# Altium footprint library SamacSys.PcbLib: 19 footprints (part 1 of 2)
Each footprint in its own frame and in the unit in brackets; x right, y up, seen from the top. Pads: shape width x height; smd on the part's side, far side on the other; paste and mask are expansions set on the pad; w line width, h text height; cw(c..) or ccw(c..) is an arc to the next point about the centre after c.
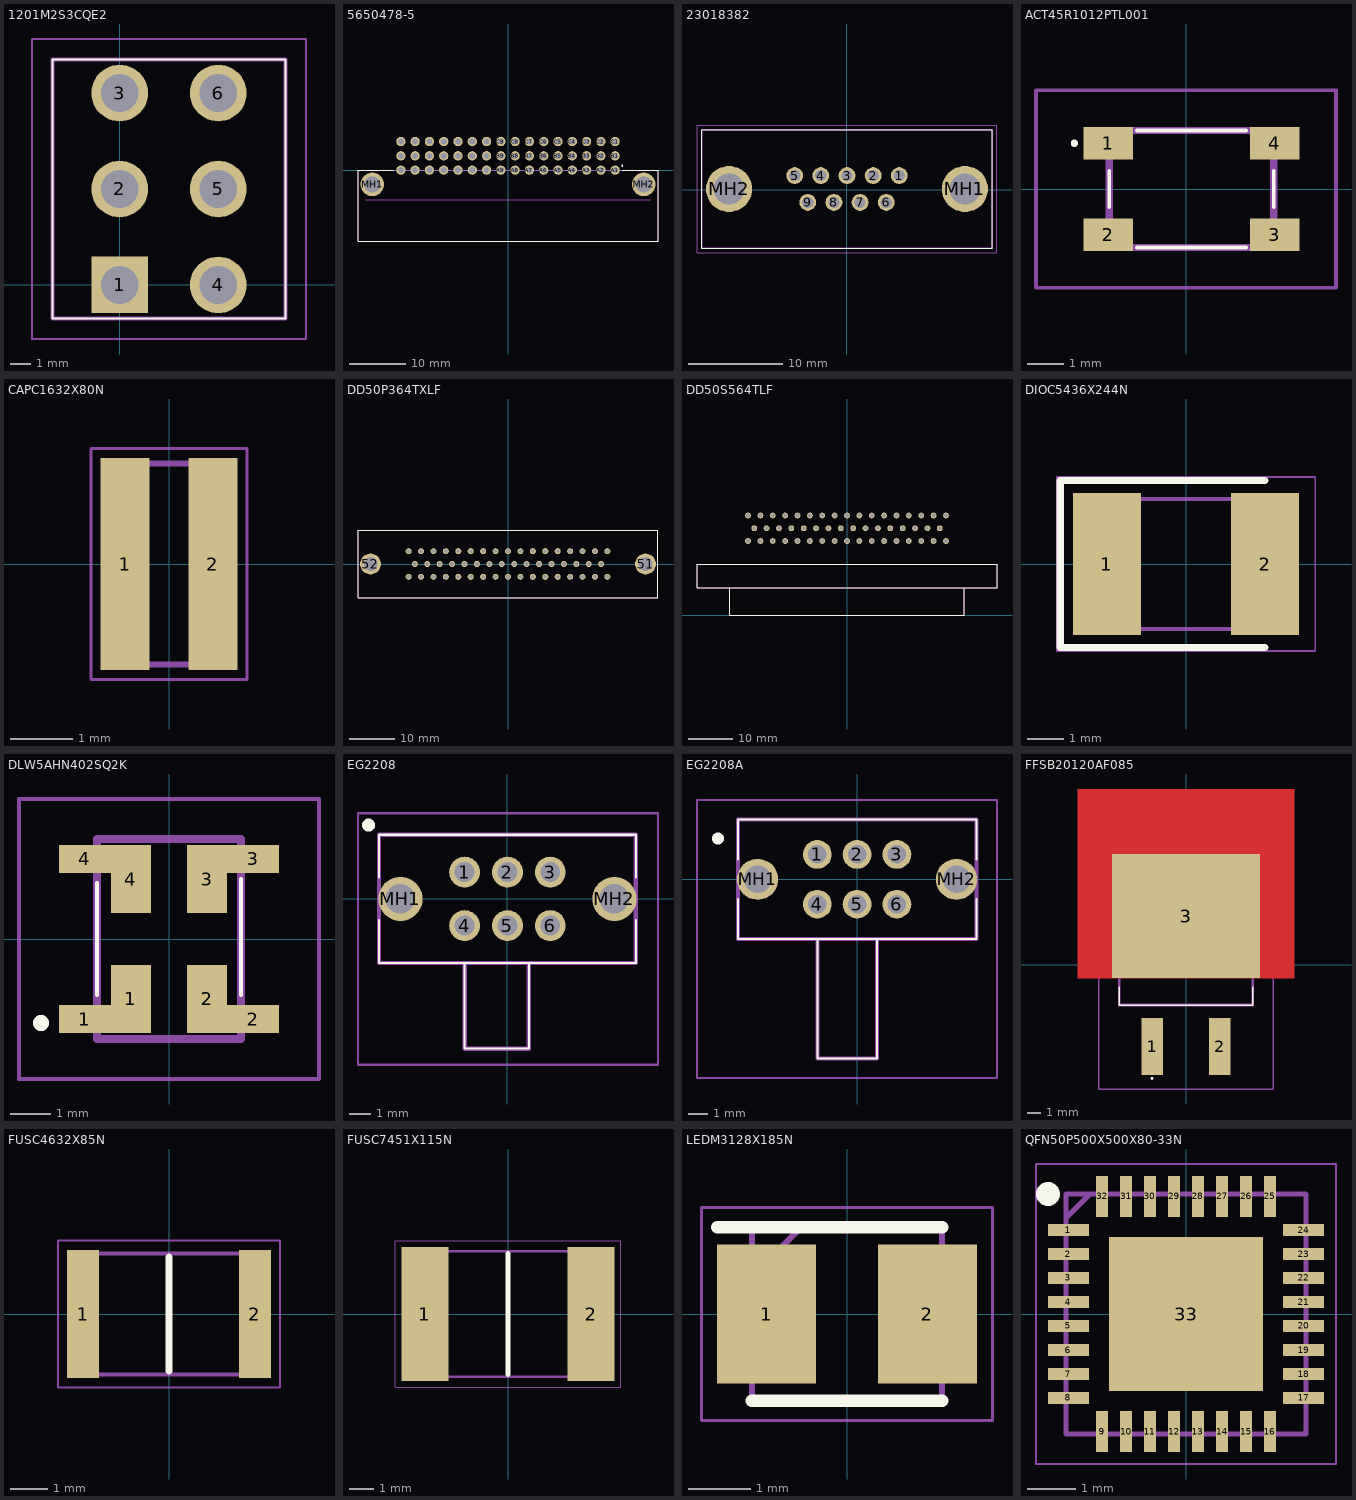
[diagram p0: the footprints below, top view; thin cyan lines are the x and y axes]

## 1201M2S3CQE2 [mm]
pads (6):
  rect 2.775x2.775 hole 1.85: 1(0,0)
  round 2.775 hole 1.85: 2(0,4.7) 3(0,9.4) 4(4.83,0) 5(4.83,4.7) 6(4.83,9.4)
Top Overlay:
  lines w0.1: -3.3,-1.65 8.13,-1.65 8.13,11.05 -3.3,11.05 -3.3,-1.65
Mechanical 13:
  lines w0.2: -3.3,-1.65 8.13,-1.65 8.13,11.05 -3.3,11.05 -3.3,-1.65
Mechanical 15:
  lines w0.1: -4.3,-2.65 9.13,-2.65 9.13,12.05 -4.3,12.05 -4.3,-2.65
3D body "1201M2S3CQE2.stp": height 11.43, standoff -5, extent -3.3,-1.65 8.13,11.05

## 5650478-5 [mm]
pads (50):
  round 1.65 hole 1.08: A1(19.05,0) A2(16.51,0) A3(13.97,0) A4(11.43,0) A5(8.89,0) A6(6.35,0) A7(3.81,0) A8(1.27,0) A9(-1.27,0) A10(-3.81,0) A11(-6.35,0) A12(-8.89,0) A13(-11.43,0) A14(-13.97,0) A15(-16.51,0) A16(-19.05,0) B1(19.05,2.54) B2(16.51,2.54) B3(13.97,2.54) B4(11.43,2.54) B5(8.89,2.54) B6(6.35,2.54) B7(3.81,2.54) B8(1.27,2.54) B9(-1.27,2.54) B10(-3.81,2.54) B11(-6.35,2.54) B12(-8.89,2.54) B13(-11.43,2.54) B14(-13.97,2.54) B15(-16.51,2.54) B16(-19.05,2.54) C1(19.05,5.08) C2(16.51,5.08) C3(13.97,5.08) C4(11.43,5.08) C5(8.89,5.08) C6(6.35,5.08) C7(3.81,5.08) C8(1.27,5.08) C9(-1.27,5.08) C10(-3.81,5.08) C11(-6.35,5.08) C12(-8.89,5.08) C13(-11.43,5.08) C14(-13.97,5.08) C15(-16.51,5.08) C16(-19.05,5.08)
  round 4.2 hole 2.89: MH1(-24.13,-2.54) MH2(24.13,-2.54)
Top Overlay:
  circle w0.2: c20.299,0.77 r0.102
  lines w0.2: -20.3,0 -26.67,0 -26.67,-12.62 26.67,-12.62 26.67,0 20.3,0
Mechanical 1:
  lines w0.203: -25.4,-5.309 25.4,-5.309
Mechanical 13:
  lines w0.2: -26.67,-12.62 -26.67,0 26.67,0 26.67,-12.62 -26.67,-12.62
3D body "5650478-5.stp": height 9.45, standoff -2.63, extent -26.732,-12.611 26.478,5.461

## 23018382 [mm]
pads (11):
  round 1.785 hole 1.19: 1(5.588,1.524) 2(2.818,1.524) 3(0.048,1.524) 4(-2.722,1.524) 5(-5.492,1.524) 6(4.203,-1.316) 7(1.433,-1.316) 8(-1.337,-1.316) 9(-4.107,-1.316)
  round 4.875 hole 3.25: MH1(12.543,0.104) MH2(-12.447,0.104)
Top Overlay:
  lines w0.1: -15.342,-6.171 -15.342,6.379 15.438,6.379 15.438,-6.171 -15.342,-6.171
Mechanical 13:
  lines w0.2: -15.342,-6.171 -15.342,6.379 15.438,6.379 15.438,-6.171 -15.342,-6.171
Mechanical 15:
  lines w0.1: -15.842,-6.671 -15.842,6.879 15.938,6.879 15.938,-6.671 -15.842,-6.671
3D body "c-2301838-2-b-3d.stp": height 12.51, standoff -4.39, extent -15.342,-6.171 15.438,6.379

## ACT45R1012PTL001 [mm]
pads (4):
  rect 1.35x0.9 smd: 1(-2.125,1.25) 2(-2.125,-1.25) 3(2.425,-1.25) 4(2.425,1.25)
Top Overlay:
  lines w0.1: -2.1,-0.5 -2.1,0.5 ; -1.35,-1.6 1.65,-1.6 ; -1.35,1.6 1.65,1.6 ; 2.4,-0.5 2.4,0.5 ; -3.05,1.2 cw(c-3.05,1.25) -3.05,1.3 cw(c-3.05,1.25) -3.05,1.2
Mechanical 13:
  lines w0.2: -2.1,-1.6 -2.1,1.6 2.4,1.6 2.4,-1.6 -2.1,-1.6
Mechanical 15:
  lines w0.1: -4.1,-2.7 -4.1,2.7 4.1,2.7 4.1,-2.7 -4.1,-2.7
3D body "ACT45R-101-2P-TL001.stp": height 3.1, standoff 0, extent -2.71,-1.61 3.01,1.61

## CAPC1632X80N [mm]
pads (2):
  rect 0.78x3.38 smd: 1(-0.7,0) 2(0.7,0)
Mechanical 13:
  lines w0.1: -0.8,-1.6 -0.8,1.6 0.8,1.6 0.8,-1.6 -0.8,-1.6
Mechanical 15:
  lines w0.05: -1.24,-1.84 -1.24,1.84 1.24,1.84 1.24,-1.84 -1.24,-1.84
3D body "LLL317R71H223MA01L.stp": height 0.8, standoff 0, extent -0.8,-1.6 0.8,1.6

## DD50P364TXLF [mm]
pads (52):
  round 1.34 hole 0.84: 1(-22.08,2.84) 2(-19.32,2.84) 3(-16.56,2.84) 4(-13.8,2.84) 5(-11.04,2.84) 6(-8.28,2.84) 7(-5.52,2.84) 8(-2.76,2.84) 9(0,2.84) 10(2.76,2.84) 11(5.52,2.84) 12(8.28,2.84) 13(11.04,2.84) 14(13.8,2.84) 15(16.56,2.84) 16(19.32,2.84) 17(22.08,2.84) 18(-20.7,0) 19(-17.94,0) 20(-15.18,0) 21(-12.42,0) 22(-9.66,0) 23(-6.9,0) 24(-4.14,0) 25(-1.38,0) 26(1.38,0) 27(4.14,0) 28(6.9,0) 29(9.66,0) 30(12.42,0) 31(15.18,0) 32(17.94,0) 33(20.7,0) 34(-22.08,-2.84) 35(-19.32,-2.84) 36(-16.56,-2.84) 37(-13.8,-2.84) 38(-11.04,-2.84) 39(-8.28,-2.84) 40(-5.52,-2.84) 41(-2.76,-2.84) 42(0,-2.84) 43(2.76,-2.84) 44(5.52,-2.84) 45(8.28,-2.84) 46(11.04,-2.84) 47(13.8,-2.84) 48(16.56,-2.84) 49(19.32,-2.84) 50(22.08,-2.84)
  round 4.65 hole 3.1: 51(30.55,0) 52(-30.55,0)
Top Overlay:
  lines w0.2: -33.325,-7.5 -33.325,7.5 33.325,7.5 33.325,-7.5 -33.325,-7.5
Mechanical 13:
  lines w0.2: -33.325,-7.5 33.325,-7.5 33.325,7.5 -33.325,7.5 -33.325,-7.5
3D body "sDD50P364TXLF.stp": height 11.57, standoff -5.19, extent -33.395,-7.61 33.395,7.61

## DD50S564TLF [mm]
pads (50):
  round 1.3 hole 0.8: 1(22.08,22.28) 2(19.32,22.28) 3(16.56,22.28) 4(13.8,22.28) 5(11.04,22.28) 6(8.28,22.28) 7(5.52,22.28) 8(2.76,22.28) 9(0,22.28) 10(-2.76,22.28) 11(-5.52,22.28) 12(-8.28,22.28) 13(-11.04,22.28) 14(-13.8,22.28) 15(-16.56,22.28) 16(-19.32,22.28) 17(-22.08,22.28) 18(20.7,19.44) 19(17.94,19.44) 20(15.18,19.44) 21(12.42,19.44) 22(9.66,19.44) 23(6.9,19.44) 24(4.14,19.44) 25(1.38,19.44) 26(-1.38,19.44) 27(-4.14,19.44) 28(-6.9,19.44) 29(-9.66,19.44) 30(-12.42,19.44) 31(-15.18,19.44) 32(-17.94,19.44) 33(-20.7,19.44) 34(22.08,16.6) 35(19.32,16.6) 36(16.56,16.6) 37(13.8,16.6) 38(11.04,16.6) 39(8.28,16.6) 40(5.52,16.6) 41(2.76,16.6) 42(0,16.6) 43(-2.76,16.6) 44(-5.52,16.6) 45(-8.28,16.6) 46(-11.04,16.6) 47(-13.8,16.6) 48(-16.56,16.6) 49(-19.32,16.6) 50(-22.08,16.6)
Top Overlay:
  lines w0.2: -26.21,6.173 -26.21,0 26.21,0 26.21,6.173 ; -33.465,6.2 -33.465,11.36 33.465,11.36 33.465,6.2 -33.465,6.2
Mechanical 13:
  lines w0.2: -26.21,6.173 -26.21,0 26.21,0 26.21,6.173 ; -33.465,6.2 -33.465,11.36 33.465,11.36 33.465,6.2 -33.465,6.2
3D body "sdd50s564tlf.stp": height 14.82, standoff -4.99, extent -33.528,-0.127 33.582,22.123

## DIOC5436X244N [mm]
pads (2):
  rect 1.9x3.95 smd: 1(-2.2,0) 2(2.2,0)
Top Overlay:
  lines w0.2: 2.2,-2.325 -3.5,-2.325 -3.5,2.325 2.2,2.325
Mechanical 13:
  lines w0.1: -2.7,0.86 -1.75,1.81 ; -2.7,-1.81 2.7,-1.81 2.7,1.81 -2.7,1.81 -2.7,-1.81
Mechanical 15:
  lines w0.05: -3.6,-2.425 3.6,-2.425 3.6,2.425 -3.6,2.425 -3.6,-2.425
3D body "SMBJ130CA.stp": height 2.44, standoff 0, extent -2.7,-1.81 2.7,1.81

## DLW5AHN402SQ2K [mm]
pads (8):
  rect 1.3x0.7 smd: 1(-2.1,-2) 2(2.1,-2) 3(2.1,2) 4(-2.1,2)
  rect 1x1.7 smd: 1(-0.95,-1.5) 2(0.95,-1.5) 3(0.95,1.5) 4(-0.95,1.5)
Top Overlay:
  lines w0.1: -1.8,-1.4 -1.8,1.4 ; 1.8,-1.4 1.8,1.5
  lines w0.2: -3.2,-2.2 cw(c-3.2,-2.1) -3.2,-2 cw(c-3.2,-2.1) -3.2,-2.2
Mechanical 13:
  lines w0.2: -1.8,-2.5 -1.8,2.5 1.8,2.5 1.8,-2.5 -1.8,-2.5
Mechanical 15:
  lines w0.1: -3.75,-3.5 -3.75,3.5 3.75,3.5 3.75,-3.5 -3.75,-3.5

## EG2208 [mm]
pads (8):
  round 1.447 hole 0.93: 1(-2,1.25) 2(0,1.25) 3(2,1.25) 4(-2,-1.25) 5(0,-1.25) 6(2,-1.25)
  round 2.07 hole 1.38: MH1(-5,0) MH2(5,0)
Top Overlay:
  lines w0.1: -6,-1 -6,-3 6,-3 6,-1 ; -6,1 -6,3 6,3 6,1 ; -2,-3 -2,-6.985 1,-6.985 1,-3
  lines w0.5: -6.492,3.397 cw(c-6.492,3.447) -6.492,3.497 cw(c-6.492,3.447) -6.492,3.397
Mechanical 13:
  lines w0.2: -2,-3 -2,-7 1,-7 1,-3 ; -6,-3 -6,3 6,3 6,-3 -6,-3
Mechanical 15:
  lines w0.1: -6.985,-7.747 -6.985,4 7.035,4 7.035,-7.747 -6.985,-7.747
3D body "EG2208.stp": height 4.61, standoff -3.39, extent -5.207,-7.112 5.093,2.888

## EG2208A [mm]
pads (8):
  round 1.447 hole 0.93: 1(-2,1.25) 2(0,1.25) 3(2,1.25) 4(-2,-1.25) 5(0,-1.25) 6(2,-1.25)
  round 2.07 hole 1.38: MH1(-5,0) MH2(5,0)
Top Overlay:
  lines w0.1: -6,-1 -6,-3 6,-3 6,-1 ; -6,1 -6,3 6,3 6,1 ; -2,-3 -2,-9 1,-9 1,-3
  lines w0.5: -7,2 cw(c-7,2.05) -7,2.1 cw(c-7,2.05) -7,2
Mechanical 13:
  lines w0.2: -2,-3 -2,-9 1,-9 1,-3 ; -6,-3 -6,3 6,3 6,-3 -6,-3
Mechanical 15:
  lines w0.1: -8.05,-10 -8.05,4 7.035,4 7.035,-10 -8.05,-10

## FFSB20120AF085 [mm]
pads (3):
  rect 1.6x4.293 smd: 1(-2.54,-6.128) 2(2.54,-6.128)
  rect 11.074x9.296 smd: 3(0,3.664)
Top Layer:
  rectangle: -8.128,-1.016 8.128,13.208
Top Overlay:
  lines w0.1: -5,-1.632 -5,-3.012 5,-3.012 5,-1.632 ; -2.6,-8.512 cw(c-2.55,-8.512) -2.5,-8.512 cw(c-2.55,-8.512) -2.6,-8.512
Top Solder:
  rectangle: 6.35,-1.016 7.874,12.7
  rectangle: -7.874,-1.016 -6.35,12.7
Mechanical 13:
  lines w0.2: -5,-3.012 5,-3.012 5,6.388 -5,6.388 -5,-3.012
Mechanical 15:
  lines w0.1: -6.537,-9.312 6.537,-9.312 6.537,9.312 -6.537,9.312 -6.537,-9.312
3D body "TO-263AB.stp": height 4.8, standoff 0, extent -5.321,-7.238 5.322,8.612

## FUSC4632X85N [mm]
pads (2):
  rect 0.85x3.43 smd: 1(-2.3,0) 2(2.3,0)
Top Overlay:
  lines w0.2: 0,-1.52 0,1.52
Mechanical 13:
  lines w0.1: -2.275,-1.62 -2.275,1.62 2.275,1.62 2.275,-1.62 -2.275,-1.62
Mechanical 15:
  lines w0.05: -2.975,-1.965 -2.975,1.965 2.975,1.965 2.975,-1.965 -2.975,-1.965
3D body "MF-MSMF050-2.stp": height 0.85, standoff 0, extent -2.275,-1.62 2.275,1.62

## FUSC7451X115N [mm]
pads (2):
  rect 1.92x5.45 smd: 1(-3.385,0) 2(3.385,0)
Top Overlay:
  lines w0.2: 0,-2.46 0,2.46
Mechanical 13:
  lines w0.1: -3.678,-2.56 -3.678,2.56 3.678,2.56 3.678,-2.56 -3.678,-2.56
Mechanical 15:
  lines w0.05: -4.595,-2.975 -4.595,2.975 4.595,2.975 4.595,-2.975 -4.595,-2.975
3D body "0ZCF0050FF2C.stp": height 1.15, standoff 0, extent -3.678,-2.56 3.678,2.56

## LEDM3128X185N [mm]
pads (2):
  rect 1.6x2.25 smd: 1(-1.3,0) 2(1.3,0)
Top Overlay:
  lines w0.2: -2.1,1.4 1.538,1.4 ; -1.538,-1.4 1.538,-1.4
Mechanical 13:
  lines w0.1: -1.538,0.6 -0.738,1.4 ; -1.538,-1.4 -1.538,1.4 1.538,1.4 1.538,-1.4 -1.538,-1.4
Mechanical 15:
  lines w0.05: -2.35,-1.725 -2.35,1.725 2.35,1.725 2.35,-1.725 -2.35,-1.725

## QFN50P500X500X80-33N [mm]
pads (33):
  rect 0.85x0.25 smd paste+0 mask+0: 1(-2.45,1.75) 2(-2.45,1.25) 3(-2.45,0.75) 4(-2.45,0.25) 5(-2.45,-0.25) 6(-2.45,-0.75) 7(-2.45,-1.25) 8(-2.45,-1.75) 17(2.45,-1.75) 18(2.45,-1.25) 19(2.45,-0.75) 20(2.45,-0.25) 21(2.45,0.25) 22(2.45,0.75) 23(2.45,1.25) 24(2.45,1.75)
  rect 0.25x0.85 smd paste+0 mask+0: 9(-1.75,-2.45) 10(-1.25,-2.45) 11(-0.75,-2.45) 12(-0.25,-2.45) 13(0.25,-2.45) 14(0.75,-2.45) 15(1.25,-2.45) 16(1.75,-2.45) 25(1.75,2.45) 26(1.25,2.45) 27(0.75,2.45) 28(0.25,2.45) 29(-0.25,2.45) 30(-0.75,2.45) 31(-1.25,2.45) 32(-1.75,2.45)
  rect 3.2x3.2 smd paste+0 mask+0: 33(0,0)
Top Overlay:
  circle w0.25: c-2.875,2.5 r0.125
Mechanical 13:
  lines w0.1: -2.5,2 -2,2.5 ; -2.5,-2.5 -2.5,2.5 2.5,2.5 2.5,-2.5 -2.5,-2.5
Mechanical 15:
  lines w0.05: -3.125,-3.125 -3.125,3.125 3.125,3.125 3.125,-3.125 -3.125,-3.125
3D body "MAX11254ATJ+.stp": height 0.8, standoff 0, extent -2.55,-2.55 2.55,2.55